# Altium footprint library Chip_Passives.PcbLib: 16 footprints
Each footprint in its own frame and in the unit in brackets; x right, y up, seen from the top. Pads: shape width x height; smd on the part's side, far side on the other; paste and mask are expansions set on the pad; w line width, h text height; cw(c..) or ccw(c..) is an arc to the next point about the centre after c.
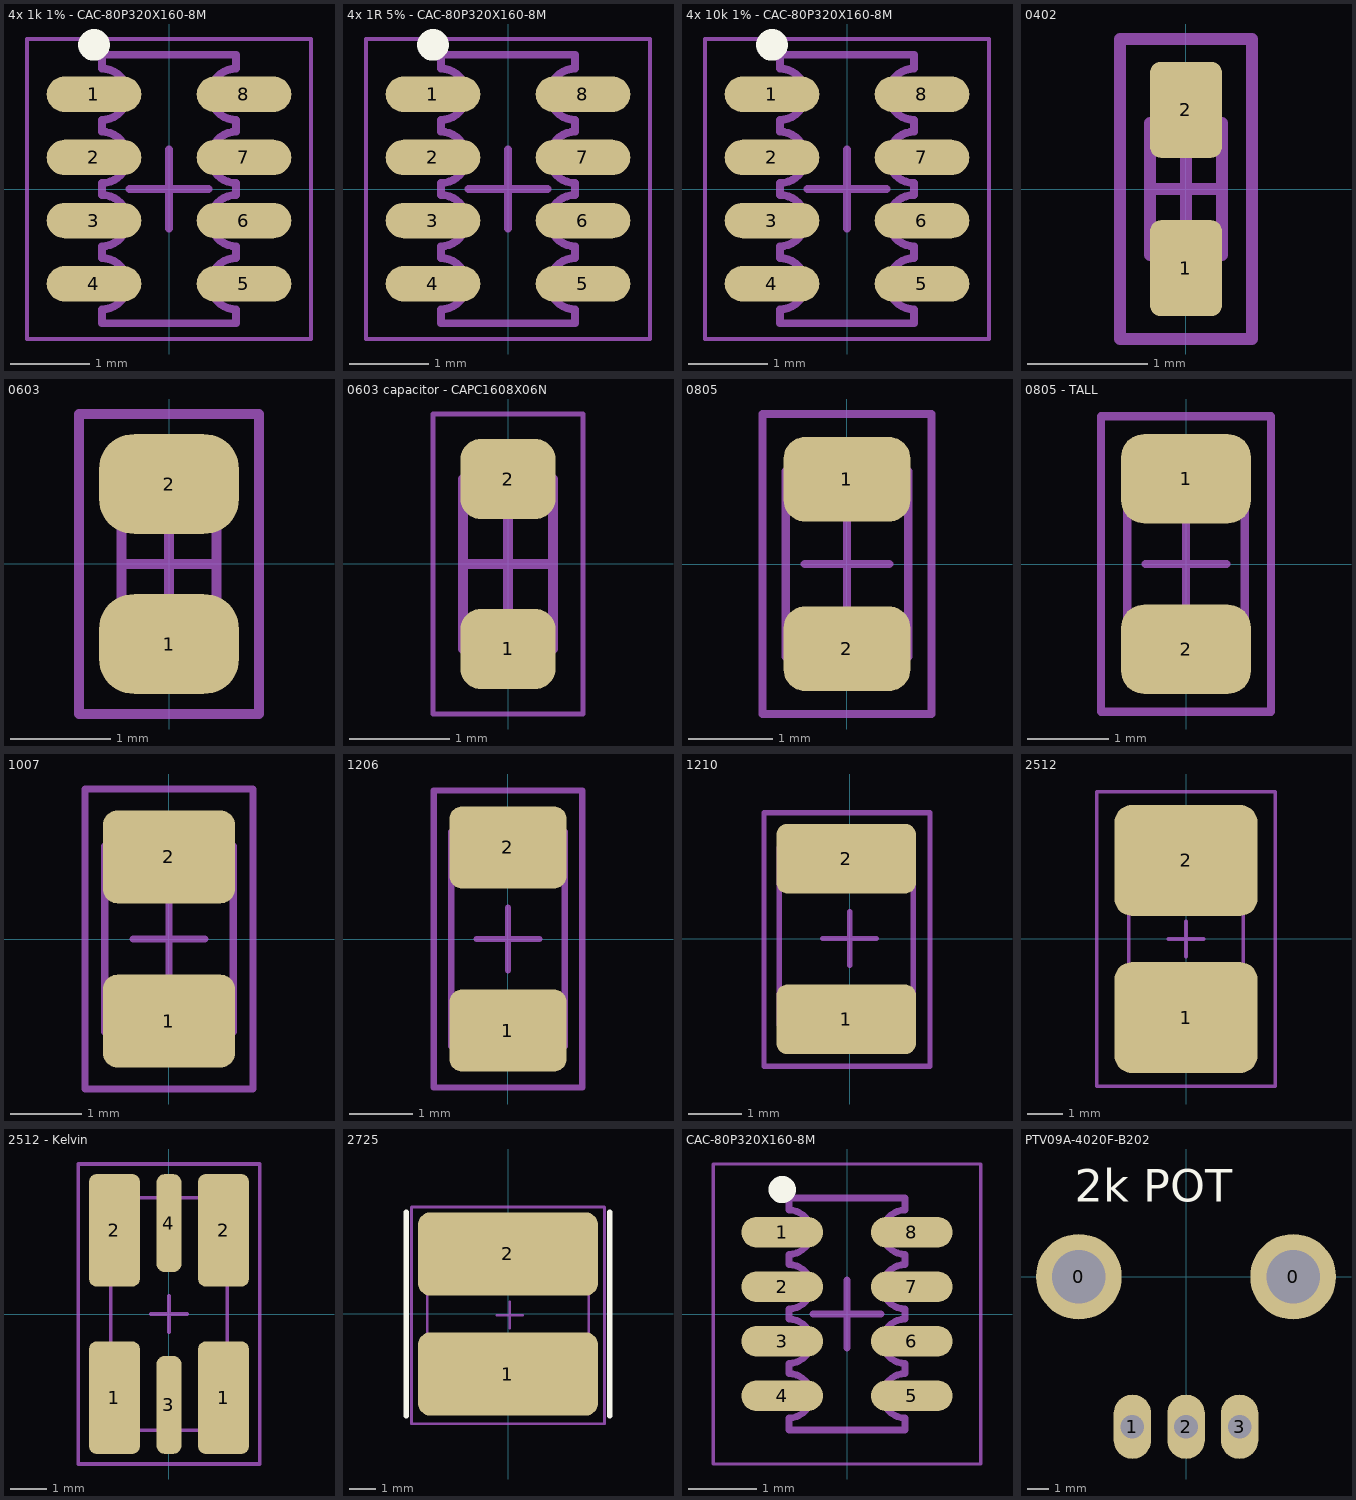
[diagram p0: the footprints below, top view; thin cyan lines are the x and y axes]

## 4x 1k 1% - CAC-80P320X160-8M [mm] "Chip Array, Concave, 8-Leads, Pitch 0.80mm,  Body 3.20x1.60mm,  IPC Low Density"
height 0.6
pads (8):
  oval 1.2x0.45 smd paste-99: 1(-0.95,1.2) 2(-0.95,0.4) 3(-0.95,-0.4) 4(-0.95,-1.2) 5(0.95,-1.2) 6(0.95,-0.4) 7(0.95,0.4) 8(0.95,1.2)
Top Overlay:
  circle w0.3: c-0.95,1.825 r0.05
Top Paste:
  lines w0.4: -1.325,-1.2 -0.725,-1.2 ; -1.325,-0.4 -0.725,-0.4 ; -1.325,0.4 -0.725,0.4 ; -1.325,1.2 -0.725,1.2 ; 0.725,-1.2 1.325,-1.2 ; 0.725,-0.4 1.325,-0.4 ; 0.725,0.4 1.325,0.4 ; 0.725,1.2 1.325,1.2
Mechanical 13:
  lines w0.1: -0.85,-1.7 -0.85,-1.525 ccw(c-0.85,-1.2) -0.85,-0.875 -0.85,-0.725 ccw(c-0.85,-0.4) -0.85,-0.075 -0.85,0.075 ccw(c-0.85,0.4) -0.85,0.725 -0.85,0.875 ccw(c-0.85,1.2) -0.85,1.525 -0.85,1.7 0.85,1.7 0.85,1.525 ccw(c0.85,1.2) 0.85,0.875 0.85,0.725 ccw(c0.85,0.4) 0.85,0.075 0.85,-0.075 ccw(c0.85,-0.4) 0.85,-0.725 0.85,-0.875 ccw(c0.85,-1.2) 0.85,-1.525 0.85,-1.7 -0.85,-1.7
Mechanical 15:
  lines w0.05: -1.8,-1.9 -1.8,1.9 1.8,1.9 1.8,-1.9 -1.8,-1.9
  lines w0.1: -0.5,0 0.5,0 ; 0,-0.5 0,0.5
3D body: height 0.6, standoff 0, extent -0.9,-1.7 0.9,1.7

## 4x 1R 5% - CAC-80P320X160-8M [mm] "Chip Array, Concave, 8-Leads, Pitch 0.80mm,  Body 3.20x1.60mm,  IPC Low Density"
height 0.6
pads (8):
  oval 1.2x0.45 smd paste-99: 1(-0.95,1.2) 2(-0.95,0.4) 3(-0.95,-0.4) 4(-0.95,-1.2) 5(0.95,-1.2) 6(0.95,-0.4) 7(0.95,0.4) 8(0.95,1.2)
Top Overlay:
  circle w0.3: c-0.95,1.825 r0.05
Top Paste:
  lines w0.4: -1.325,-1.2 -0.725,-1.2 ; -1.325,-0.4 -0.725,-0.4 ; -1.325,0.4 -0.725,0.4 ; -1.325,1.2 -0.725,1.2 ; 0.725,-1.2 1.325,-1.2 ; 0.725,-0.4 1.325,-0.4 ; 0.725,0.4 1.325,0.4 ; 0.725,1.2 1.325,1.2
Mechanical 13:
  lines w0.1: -0.85,-1.7 0.85,-1.7 0.85,-1.525 cw(c0.85,-1.2) 0.85,-0.875 0.85,-0.725 cw(c0.85,-0.4) 0.85,-0.075 0.85,0.075 cw(c0.85,0.4) 0.85,0.725 0.85,0.875 cw(c0.85,1.2) 0.85,1.525 0.85,1.7 -0.85,1.7 -0.85,1.525 cw(c-0.85,1.2) -0.85,0.875 -0.85,0.725 cw(c-0.85,0.4) -0.85,0.075 -0.85,-0.075 cw(c-0.85,-0.4) -0.85,-0.725 -0.85,-0.875 cw(c-0.85,-1.2) -0.85,-1.525 -0.85,-1.7
Mechanical 15:
  lines w0.05: -1.8,-1.9 1.8,-1.9 1.8,1.9 -1.8,1.9 -1.8,-1.9
  lines w0.1: -0.5,0 0.5,0 ; 0,-0.5 0,0.5
3D body: height 0.6, standoff 0, extent -0.9,-1.7 0.9,1.7

## 4x 10k 1% - CAC-80P320X160-8M [mm] "Chip Array, Concave, 8-Leads, Pitch 0.80mm,  Body 3.20x1.60mm,  IPC Low Density"
height 0.6
pads (8):
  oval 1.2x0.45 smd paste-99: 1(-0.95,1.2) 2(-0.95,0.4) 3(-0.95,-0.4) 4(-0.95,-1.2) 5(0.95,-1.2) 6(0.95,-0.4) 7(0.95,0.4) 8(0.95,1.2)
Top Overlay:
  circle w0.3: c-0.95,1.825 r0.05
Top Paste:
  lines w0.4: -1.325,-1.2 -0.725,-1.2 ; -1.325,-0.4 -0.725,-0.4 ; -1.325,0.4 -0.725,0.4 ; -1.325,1.2 -0.725,1.2 ; 0.725,-1.2 1.325,-1.2 ; 0.725,-0.4 1.325,-0.4 ; 0.725,0.4 1.325,0.4 ; 0.725,1.2 1.325,1.2
Mechanical 13:
  lines w0.1: -0.85,-1.7 0.85,-1.7 0.85,-1.525 cw(c0.85,-1.2) 0.85,-0.875 0.85,-0.725 cw(c0.85,-0.4) 0.85,-0.075 0.85,0.075 cw(c0.85,0.4) 0.85,0.725 0.85,0.875 cw(c0.85,1.2) 0.85,1.525 0.85,1.7 -0.85,1.7 -0.85,1.525 cw(c-0.85,1.2) -0.85,0.875 -0.85,0.725 cw(c-0.85,0.4) -0.85,0.075 -0.85,-0.075 cw(c-0.85,-0.4) -0.85,-0.725 -0.85,-0.875 cw(c-0.85,-1.2) -0.85,-1.525 -0.85,-1.7
Mechanical 15:
  lines w0.05: -1.8,-1.9 1.8,-1.9 1.8,1.9 -1.8,1.9 -1.8,-1.9
  lines w0.1: -0.5,0 0.5,0 ; 0,-0.5 0,0.5
3D body: height 0.6, standoff 0, extent -0.9,-1.7 0.9,1.7

## 0402 [mm] "Chip Capacitor, 2-Leads, Body 1.0x0.5mm, IPC Medium Density"
height 0.5
pads (2):
  rrect30% 0.6x0.8 smd paste-0.025: 1(0,-0.66) 2(0,0.66)
Mechanical 13:
  lines w0.1: -0.3,-0.55 0.3,-0.55 0.3,0.55 -0.3,0.55 -0.3,-0.55
Mechanical 15:
  lines w0.1: -0.3,0 0.3,0 ; 0,-0.3 0,0.3 ; -0.55,-1.25 0.55,-1.25 0.55,1.25 -0.55,1.25 -0.55,-1.25
Assembly:
  lines w0.1: -0.55,-1.25 -0.55,1.25 0.55,1.25 0.55,-1.25 -0.55,-1.25
  text ".Designator" at 0.1,-0.8 h0.4
3D body: height 0.5, standoff 0, extent -0.3,-0.55 0.3,0.55

## 0603 [mm] "Chip Capacitor, 2-Leads, Body 1.6x0.8mm, IPC Medium Density"
height 0.65
pads (2):
  rrect70% 1.4x1 smd paste+0: 1(0,-0.8) 2(0,0.8)
Mechanical 13:
  lines w0.1: -0.475,-0.875 0.475,-0.875 0.475,0.875 -0.475,0.875 -0.475,-0.875
Mechanical 15:
  lines w0.1: -0.475,0 0.475,0 ; 0,-0.475 0,0.475 ; -0.9,-1.5 0.9,-1.5 0.9,1.5 -0.9,1.5 -0.9,-1.5
Assembly:
  lines w0.1: -0.9,-1.5 -0.9,1.5 0.9,1.5 0.9,-1.5 -0.9,-1.5
  text ".Designator" at 0.1,-1.3 h0.6
3D body: height 0.65, standoff 0, extent -0.475,-0.875 0.475,0.875

## 0603 capacitor - CAPC1608X06N [mm] "Chip Capacitor, 2-Leads, Body 1.60x0.80mm, IPC Medium Density"
height 0.6
pads (2):
  rrect50% 0.95x0.8 smd: 1(0,-0.85) 2(0,0.85)
Mechanical 13:
  lines w0.1: -0.45,-0.85 0.45,-0.85 0.45,0.85 -0.45,0.85 -0.45,-0.85
Mechanical 15:
  lines w0.05: -0.75,-1.5 0.75,-1.5 0.75,1.5 -0.75,1.5 -0.75,-1.5
  lines w0.1: -0.45,0 0.45,0 ; 0,-0.45 0,0.45
3D body: height 0.6, standoff 0, extent -0.45,-0.65 0.45,0.65
3D body: height 0.6, standoff 0, extent -0.45,-0.85 0.45,-0.65
3D body: height 0.6, standoff 0, extent -0.45,0.65 0.45,0.85

## 0805 [mm] "Chip Capacitor, 2-Leads, Body 2.0x1.3mm, IPC Medium Density"
height 0.8
pads (2):
  rrect50% 1.5x1 smd paste+0: 1(0,1.002) 2(0,-1.002)
Mechanical 13:
  lines w0.1: -0.725,-1.1 -0.725,1.1 0.725,1.1 0.725,-1.1 -0.725,-1.1
Mechanical 15:
  lines w0.1: -0.5,0 0.5,0 ; 0,-0.5 0,0.5 ; -1,-1.775 -1,1.775 1,1.775 1,-1.775 -1,-1.775
Assembly:
  lines w0.1: -1,-1.775 1,-1.775 1,1.775 -1,1.775 -1,-1.775
  text ".Designator" at 0.2,-1.6 h0.9
3D body: height 0.8, standoff 0, extent -0.725,-1.1 0.725,1.1

## 0805 - TALL [mm] "Same as 0805 footprint, but solder mask is adjusted to leave more paste behind for tall (>0.9mm) components like big caps, which tend to be solder-starved on the regular footprint."
height 0.8
pads (2):
  rrect50% 1.6x1.1 smd paste+0: 1(0,1.052) 2(0,-1.052)
Mechanical 13:
  lines w0.1: -0.725,-1.1 -0.725,1.1 0.725,1.1 0.725,-1.1 -0.725,-1.1
Mechanical 15:
  lines w0.1: -0.5,0 0.5,0 ; 0,-0.5 0,0.5 ; -1.05,-1.825 -1.05,1.825 1.05,1.825 1.05,-1.825 -1.05,-1.825
Assembly:
  lines w0.1: -1.05,-1.825 -1.05,1.825 1.05,1.825 1.05,-1.825 -1.05,-1.825
  text ".Designator" at 0.2,-1.6 h0.9
3D body: height 0.8, standoff 0, extent -0.725,-1.1 0.725,1.1

## 1007 [mm] "Chip Capacitor, 2-Leads, Body 2.5x1.8mm, IPC Medium Density"
height 1
pads (2):
  rrect30% 1.85x1.3 smd paste-2.515: 1(0,-1.15) 2(0,1.15)
Top Paste:
  region: 0.875,-0.7 0.875,-1.6 0.725,-1.75 -0.725,-1.75 -0.875,-1.6 -0.875,-0.7 -0.75,-0.575 0,-0.875 0.75,-0.575
  region: -0.875,0.7 -0.875,1.6 -0.725,1.75 0.725,1.75 0.875,1.6 0.875,0.7 0.75,0.575 0,0.875 -0.75,0.575
Mechanical 13:
  lines w0.1: -0.9,-1.3 -0.9,1.3 0.9,1.3 0.9,-1.3 -0.9,-1.3
Mechanical 15:
  lines w0.1: -0.5,0 0.5,0 ; 0,-0.5 0,0.5 ; -1.175,-2.1 -1.175,2.1 1.175,2.1 1.175,-2.1 -1.175,-2.1
Assembly:
  lines w0.1: -1.175,-2.1 1.175,-2.1 1.175,2.1 -1.175,2.1 -1.175,-2.1
  text ".Designator" at 0.2,-1.6 h0.9
3D body: height 1.8, standoff 0, extent -0.9,-1.3 0.9,1.3

## 1206 [mm] "Chip Capacitor, 2-Leads, Body 3.2x1.6mm, IPC Medium Density"
height 1
pads (2):
  rrect30% 1.85x1.3 smd paste+0: 1(0,-1.45) 2(0,1.45)
Mechanical 13:
  lines w0.1: -0.9,-1.7 0.9,-1.7 0.9,1.7 -0.9,1.7 -0.9,-1.7
Mechanical 15:
  lines w0.1: -0.5,0 0.5,0 ; 0,-0.5 0,0.5 ; -1.175,-2.35 1.175,-2.35 1.175,2.35 -1.175,2.35 -1.175,-2.35
Assembly:
  lines w0.1: -1.175,-2.35 -1.175,2.35 1.175,2.35 1.175,-2.35 -1.175,-2.35
  text ".Designator" at 0.3,-2.1 h1.1
3D body: height 1, standoff 0, extent -0.9,-1.7 0.9,1.7

## 1210 [mm]
height 0.55
pads (2):
  rrect30% 2.6x1.3 smd paste+0: 1(-0.064,-1.508) 2(-0.064,1.492)
Mechanical 13:
  lines w0.1: -1.314,-1.608 -1.314,1.7 1.186,1.7 1.186,-1.608 -1.314,-1.608
Mechanical 15:
  lines w0.1: -0.5,0 0.5,0 ; 0,-0.5 0,0.5 ; -1.6,-2.383 -1.6,2.35 1.5,2.35 1.5,-2.383 -1.6,-2.383
Assembly:
  lines w0.1: -1.6,-2.383 -1.6,2.35 1.5,2.35 1.5,-2.383 -1.6,-2.383
  text ".Designator" at 0.2,-1.9 h0.9
3D body: height 1, standoff 0, extent -1.314,-1.558 1.186,1.742

## 2512 [mm]
pads (2):
  rrect30% 4x3.1 smd paste-25.375: 1(0,-2.2) 2(0,2.2)
Top Paste:
  region: 1.95,-1.1 1.95,-3.25 1.5,-3.7 -1.5,-3.7 -1.95,-3.25 -1.95,-1.1 -1.588,-0.738 0,-1.65 1.587,-0.738
  region: -1.95,1.1 -1.95,3.25 -1.5,3.7 1.5,3.7 1.95,3.25 1.95,1.1 1.588,0.738 0,1.65 -1.587,0.738
Mechanical 13:
  lines w0.1: -1.6,-3.2 -1.6,3.2 1.6,3.2 1.6,-3.2 -1.6,-3.2
Mechanical 15:
  lines w0.1: -0.5,0 0.5,0 ; 0,-0.5 0,0.5 ; -2.5,-4.125 -2.5,4.125 2.5,4.125 2.5,-4.125 -2.5,-4.125
Assembly:
  lines w0.1: -2.5,-4.125 -2.5,4.125 2.5,4.125 2.5,-4.125 -2.5,-4.125
  text ".Designator" at 0.2,-2.5 h1.2
3D body: height 1, standoff 0, extent -1.6,-3.2 1.6,3.2

## 2512 - Kelvin [mm]
pads (6):
  rrect30% 1.4x3.1 smd paste-0.03: 1(-1.5,-2.3) 1(1.5,-2.3) 2(-1.5,2.3) 2(1.5,2.3)
  rrect70% 0.7x2.7 smd paste-0.03: 3(0,-2.5) 4(0,2.5)
Mechanical 13:
  lines w0.1: -1.6,-3.2 1.6,-3.2 1.6,3.2 -1.6,3.2 -1.6,-3.2
Mechanical 15:
  lines w0.1: -0.5,0 0.5,0 ; 0,-0.5 0,0.5 ; -2.5,-4.125 2.5,-4.125 2.5,4.125 -2.5,4.125 -2.5,-4.125
Assembly:
  lines w0.1: -2.5,-4.125 -2.5,4.125 2.5,4.125 2.5,-4.125 -2.5,-4.125
  text ".Designator" at 0.2,-2.5 h1.2
3D body: height 1, standoff 0, extent -1.6,-3.2 1.6,3.2

## 2725 [mm]
pads (2):
  rrect30% 6.9x3.2 smd paste-0.05: 1(0,-2.3) 2(0,2.3)
Top Overlay:
  lines w0.2: -3.9,-3.9 -3.9,3.9 ; 3.9,-3.9 3.9,3.9
Mechanical 13:
  lines w0.1: -3.1,-2.7 -3.1,2.8 3.1,2.8 3.1,-2.7 -3.1,-2.7
Mechanical 15:
  lines w0.1: -0.436,-0.042 0.564,-0.042 ; 0.064,-0.542 0.064,0.458 ; -3.7,-4.2 -3.7,4.1 3.7,4.1 3.7,-4.2 -3.7,-4.2
Assembly:
  lines w0.1: -3.7,-4.2 3.7,-4.2 3.7,4.1 -3.7,4.1 -3.7,-4.2
  text ".Designator" at 0.2,-2.5 h1.2
3D body: height 1, standoff 0, extent -3.3,-3.4 3.3,3.4

## CAC-80P320X160-8M [mm] "Chip Array, Concave, 8-Leads, Pitch 0.80mm,  Body 3.20x1.60mm,  IPC Low Density"
height 0.6
pads (8):
  oval 1.2x0.45 smd paste-99: 1(-0.95,1.2) 2(-0.95,0.4) 3(-0.95,-0.4) 4(-0.95,-1.2) 5(0.95,-1.2) 6(0.95,-0.4) 7(0.95,0.4) 8(0.95,1.2)
Top Overlay:
  circle w0.3: c-0.95,1.825 r0.05
Top Paste:
  lines w0.4: -1.325,-1.2 -0.725,-1.2 ; -1.325,-0.4 -0.725,-0.4 ; -1.325,0.4 -0.725,0.4 ; -1.325,1.2 -0.725,1.2 ; 0.725,-1.2 1.325,-1.2 ; 0.725,-0.4 1.325,-0.4 ; 0.725,0.4 1.325,0.4 ; 0.725,1.2 1.325,1.2
Mechanical 13:
  lines w0.1: -0.85,-1.7 -0.85,-1.525 ccw(c-0.85,-1.2) -0.85,-0.875 -0.85,-0.725 ccw(c-0.85,-0.4) -0.85,-0.075 -0.85,0.075 ccw(c-0.85,0.4) -0.85,0.725 -0.85,0.875 ccw(c-0.85,1.2) -0.85,1.525 -0.85,1.7 0.85,1.7 0.85,1.525 ccw(c0.85,1.2) 0.85,0.875 0.85,0.725 ccw(c0.85,0.4) 0.85,0.075 0.85,-0.075 ccw(c0.85,-0.4) 0.85,-0.725 0.85,-0.875 ccw(c0.85,-1.2) 0.85,-1.525 0.85,-1.7 -0.85,-1.7
Mechanical 15:
  lines w0.05: -1.96,-2.2 -1.96,2.2 1.96,2.2 1.96,-2.2 -1.96,-2.2
  lines w0.1: -0.5,0 0.5,0 ; 0,-0.5 0,0.5
3D body: height 0.6, standoff 0, extent -0.9,-1.7 0.9,1.7

## PTV09A-4020F-B202 [mm]
pads (5):
  round 4 hole 2.5 mask+0.102: 0(-5,0) 0(5,0)
  oval 1.75x3 hole 1.1 mask+0.102: 1(-2.5,-7) 2(0,-7) 3(2.5,-7)
Top Overlay:
  text "2k POT" at -5.2,3.5 h1.52
Assembly:
  text ".Designator" at 0.2,-2.5 h1.2
3D body "PTV09A-4.stp": height 21.8, standoff -3.99, extent -5.7,-7.15 5.7,5.5